# Altium schematic symbol library R 0,250W.SchLib: 1 symbol
Pins are listed as number, name and electrical type; pins without a type are passive.

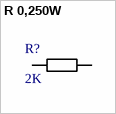
[diagram p0: symbol R 0,250W]

## R 0,250W
designator R?, comment 2K
1 kOhms ±1% 0.25W, 1/4W Through Hole Resistor Axial Automotive AEC-Q200 Metal Film; MPN: MFS1/4CC1001F; Voltage: 250V; SPN#1: 2019-MFS1/4CC1001F-ND; Value: 2K; Supplier #1: DigiKey; ComponentLink1Description: Datasheet; ComponentLink1URL: https://www.koaspeer.com/pdfs/MF-MFS-RK.pdf; ComponentLink2Description: Supplier #1; ComponentLink2URL: https://www.digikey.pl/en/products/detail/koa-speer-electronics-inc/MFS1-4CC1001F/21681477
footprint R
pins: 1, 2